# Altium integrated library Motorola Video TV Interface Circuit.IntLib: 2 symbols
Pins are listed as number, name and electrical type; pins without a type are passive.

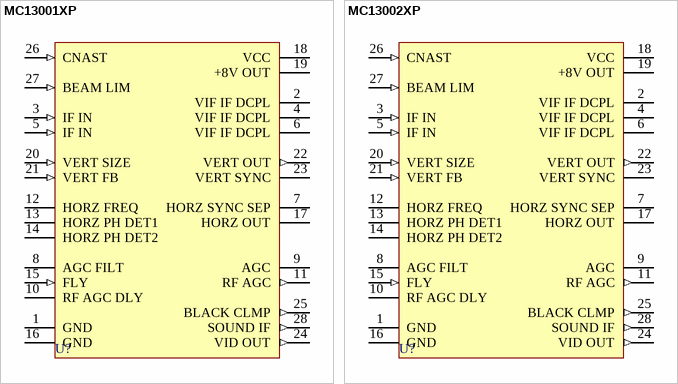
[diagram p0: symbols MC13001XP to MC13002XP]

## MC13001XP
designator U?
Monomax Black-and-White TV Subsystem; Published: 17-Jul-2002; LatestRevisionDate: 06-Jun-2005; LatestRevisionNote: Stylized 3D Model Added.; DatasheetVersion: 1988; PackageReference: 710-02; Publisher: Altium Limited; PackageDescription: DIP; 28 Leads; Row Spacing 15.24 mm; Pitch 2.54 mm
footprint 710-02 (DIP; 28 Leads; Row Spacing 15.24 mm; Pitch 2.54 mm)
3D model 710-02 (DIP; 28 Leads; Row Spacing 15.24 mm; Pitch 2.54 mm)
pins: 1 GND (power), 2 VIF IF DCPL, 3 IF IN (in), 4 VIF IF DCPL, 5 IF IN (in), 6 VIF IF DCPL, 7 HORZ SYNC SEP (oe), 8 AGC FILT, 9 AGC (oe), 10 RF AGC DLY, 11 RF AGC (out), 12 HORZ FREQ, 13 HORZ PH DET1, 14 HORZ PH DET2, 15 FLY (in), 16 GND (power), 17 HORZ OUT (oc), 18 VCC (power), 19 +8V OUT (power), 20 VERT SIZE (in), 21 VERT FB (in), 22 VERT OUT (out), 23 VERT SYNC (oe), 24 VID OUT (out), 25 BLACK CLMP (out), 26 CNAST (in), 27 BEAM LIM (in), 28 SOUND IF (out)

## MC13002XP
designator U?
Monomax Black-and-White TV Subsystem; Published: 17-Jul-2002; LatestRevisionDate: 06-Jun-2005; LatestRevisionNote: Stylized 3D Model Added.; DatasheetVersion: 1988; PackageReference: 710-02; Publisher: Altium Limited; PackageDescription: DIP; 28 Leads; Row Spacing 15.24 mm; Pitch 2.54 mm
footprint 710-02 (DIP; 28 Leads; Row Spacing 15.24 mm; Pitch 2.54 mm)
3D model 710-02 (DIP; 28 Leads; Row Spacing 15.24 mm; Pitch 2.54 mm)
pins: 1 GND (power), 2 VIF IF DCPL, 3 IF IN (in), 4 VIF IF DCPL, 5 IF IN (in), 6 VIF IF DCPL, 7 HORZ SYNC SEP (oe), 8 AGC FILT, 9 AGC (oe), 10 RF AGC DLY, 11 RF AGC (out), 12 HORZ FREQ, 13 HORZ PH DET1, 14 HORZ PH DET2, 15 FLY (in), 16 GND (power), 17 HORZ OUT (oc), 18 VCC (power), 19 +8V OUT (power), 20 VERT SIZE (in), 21 VERT FB (in), 22 VERT OUT (out), 23 VERT SYNC (oe), 24 VID OUT (out), 25 BLACK CLMP (out), 26 CNAST (in), 27 BEAM LIM (in), 28 SOUND IF (out)